# Altium schematic symbol library TC4429CPA.SchLib: 1 symbol
Pins are listed as number, name and electrical type; pins without a type are passive.

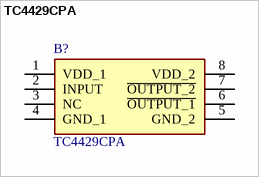
[diagram p0: symbol TC4429CPA]

## TC4429CPA
designator B?
IC,Driver Interface,MOSFET,IGBT,TC4429CPA; Manufacturer_Name: Microchip; Geometry.Height: 4.32mm; Mouser Part Number: 579-TC4429CPA; Mouser Price/Stock: https://www.mouser.co.uk/ProductDetail/Microchip-Technology/TC4429CPA?qs=YUl711QUJY38xt9BogTiMQ%3D%3D; Manufacturer_Part_Number: TC4429CPA; Datasheet Link: https://ww1.microchip.com/downloads/en/DeviceDoc/21419D.pdf
footprint DIP794W56P254L946H432Q8N
pins: 1 VDD_1, 2 INPUT, 3 NC, 4 GND_1, 5 GND_2, 6 ~{OUTPUT_1}, 7 ~{OUTPUT_2}, 8 VDD_2